# EAGLE library part ITS4880R-W (library infineon)
Smart Power High-Side-Switch for Industrial Applications. Eight Channels: 8 x 200 mOhm with pad for hand soldering Source: http://www.infineon.com .. ITS4880R_20060309.pdf
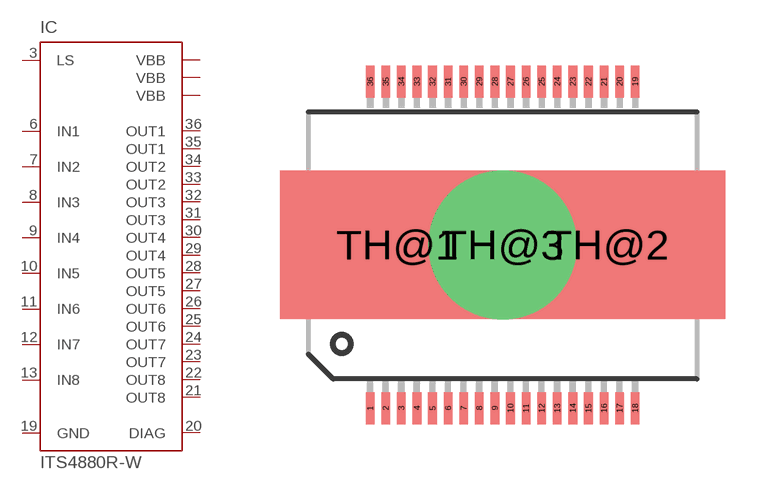
[diagram p3: symbol with the pads of PG-DSO-36W; footprint PG-DSO-36W]

Designator prefix IC

## ITS4880R-W  [PG-DSO-36W]
3  LS  in
6  IN1  in
7  IN2  in
8  IN3  in
9  IN4  in
10  IN5  in
11  IN6  in
12  IN7  in
13  IN8  in
19  GND  pwr
20  DIAG  out
21  OUT8  out
22  OUT8  out
23  OUT7  out
24  OUT7  out
25  OUT6  out
26  OUT6  out
27  OUT5  out
28  OUT5  out
29  OUT4  out
30  OUT4  out
31  OUT3  out
32  OUT3  out
33  OUT2  out
34  OUT2  out
35  OUT1  out
36  OUT1  out
TH@1  VBB  in
TH@2  VBB  in
TH@3  VBB  in

## Footprint PG-DSO-36W (pad centres in mm)
PG-DSO-36 Wave Source: http://www.infineon.com .. ITS4880R_20060309.pdf
smd 0.35 x 1.3: 1 -5.355,-6.6; 2 -4.725,-6.6; 3 -4.095,-6.6; 4 -3.465,-6.6; 5 -2.835,-6.6; 6 -2.205,-6.6; 7 -1.575,-6.6; 8 -0.945,-6.6; 9 -0.315,-6.6; 10 0.315,-6.6; 11 0.945,-6.6; 12 1.575,-6.6; 13 2.205,-6.6; 14 2.835,-6.6; 15 3.465,-6.6; 16 4.095,-6.6; 17 4.725,-6.6; 18 5.355,-6.6; 19 5.355,6.6; 20 4.725,6.6; 21 4.095,6.6; 22 3.465,6.6; 23 2.835,6.6; 24 2.205,6.6; 25 1.575,6.6; 26 0.945,6.6; 27 0.315,6.6; 28 -0.315,6.6; 29 -0.945,6.6; 30 -1.575,6.6; 31 -2.205,6.6; 32 -2.835,6.6; 33 -3.465,6.6; 34 -4.095,6.6; 35 -4.725,6.6; 36 -5.355,6.6
smd 9.5 x 6: TH@1 -4.25,0; TH@2 4.25,0
drill 5 pad 5.1 round: TH@3 0,0